# EAGLE library part P1AM-PROTO-BLANK (library P1AM-PROTO)
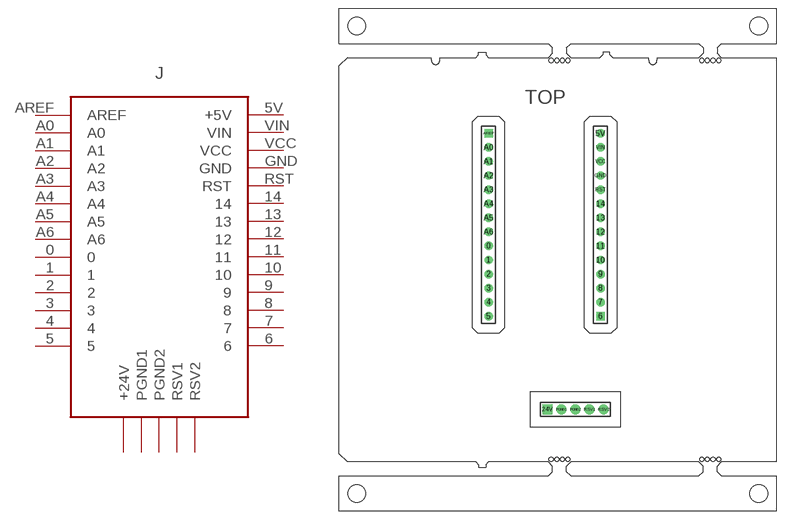
[diagram p2: symbol with the pads of P1AM-PROTO-BLANK; footprint P1AM-PROTO-BLANK]

Designator prefix J

## P1AM-PROTO-BLANK  [P1AM-PROTO-BLANK]
0  0
1  1
2  2
3  3
4  4
5  5
5V  +5V
6  6
7  7
8  8
9  9
10  10
11  11
12  12
13  13
14  14
24V  +24V
A0  A0
A1  A1
A2  A2
A3  A3
A4  A4
A5  A5
A6  A6
AREF  AREF
GND  GND
PGND1  PGND1
PGND2  PGND2
RST  RST
RSV1  RSV1
RSV2  RSV2
VCC  VCC
VIN  VIN

## Footprint P1AM-PROTO-BLANK (pad centres in mm)
drill 1: 0 26.97,47.885; 1 26.97,45.345; 2 26.97,42.805; 3 26.97,40.265; 4 26.97,37.725; 5 26.97,35.185; 5V 47.163,68.205; 7 47.163,37.725; 8 47.163,40.265; 9 47.163,42.805; 10 47.163,45.345; 11 47.163,47.885; 12 47.163,50.425; 13 47.163,52.965; 14 47.163,55.505; A0 26.97,65.665; A1 26.97,63.125; A2 26.97,60.585; A3 26.97,58.045; A4 26.97,55.505; A5 26.97,52.965; A6 26.97,50.425; GND 47.163,60.585; RST 47.163,58.045; VCC 47.163,63.125; VIN 47.163,65.665
drill 1 square: 6 47.163,35.185; AREF 26.97,68.205
drill 1 pad 1.778 square: 24V 37.562,18.37
drill 1 pad 1.778: PGND1 40.102,18.37; PGND2 42.642,18.37; RSV1 45.182,18.37; RSV2 47.722,18.37
hole 0.75 at 38.265,81.382
hole 0.75 at 39.281,81.382
hole 0.75 at 40.297,81.382
hole 0.75 at 41.313,81.382
hole 0.75 at 65.443,81.382
hole 0.75 at 66.459,81.382
hole 0.75 at 67.475,81.382
hole 0.75 at 68.491,81.382
hole 0.75 at 38.265,9.373
hole 0.75 at 39.281,9.373
hole 0.75 at 40.297,9.373
hole 0.75 at 41.313,9.373
hole 0.75 at 65.443,9.373
hole 0.75 at 66.459,9.373
hole 0.75 at 67.475,9.373
hole 0.75 at 68.491,9.373